# Altium schematic symbol library CapacitorsPoll.SchLib: 96 symbols (part 1 of 2)
Pins are listed as number, name and electrical type; pins without a type are passive.

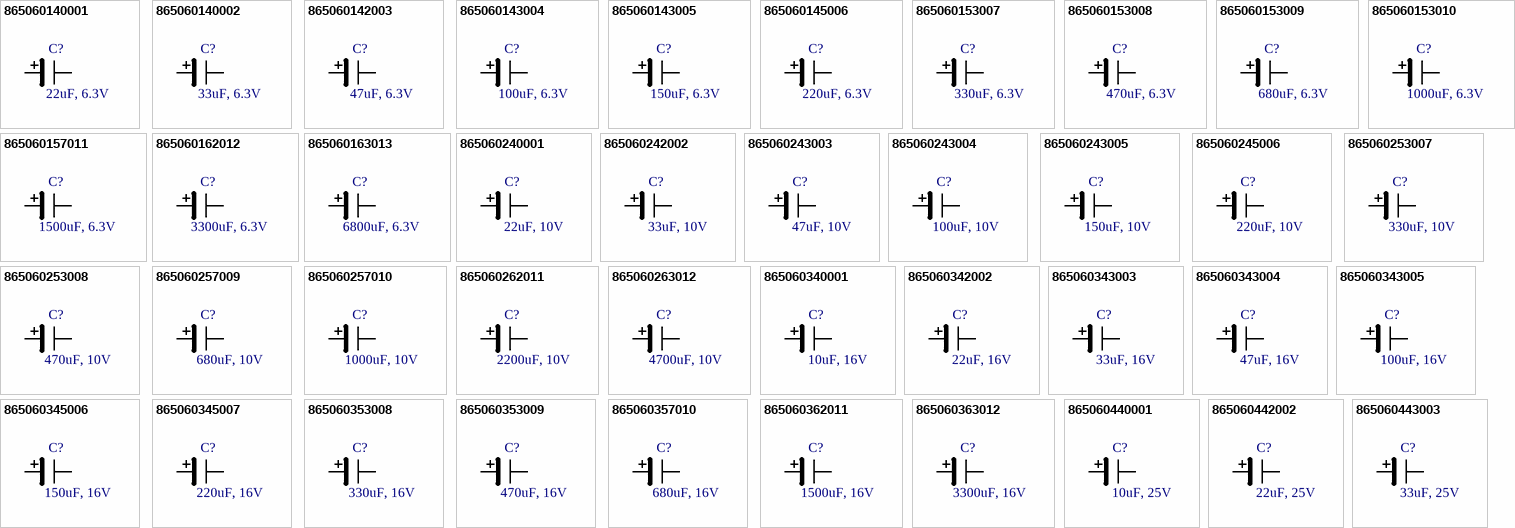
[diagram p0: symbols 865060140001 to 865060443003]

## 865060140001
designator C?, comment 22uF, 6.3V
WCAP-ASLL Aluminum Electrolytic Capacitor, V-Chip, SMT, D4xH5.5mm, 22uF, 6.3V; Manufacturer Part Number: 865060140001; Manufacturer: Wurth Elektronik; Technical Reference: ASEB055220M6R3DVCTAB000; Ripple Current: 80mA; Capacitance Tolerance: +/-20%; Rated Voltage: 6.3VDC; Dissipation Factor: 22%; Endurance: 2000h; Leakage Current: 3uA; Operating Temperature: -55 to +105degC; Mounting Technology: SMT; ComponentLink1URL: http://www.we-online.de; ComponentLink1Description: Manufacturer; Packaging: Tape and Reel; Published Date: October 2020; ComponentLink2Description: Datasheet; ComponentLink2URL: https://www.we-online.com/catalog/datasheet/865060140001.pdf; Diameter: 4mm; Capacitance: 22uF; Height: 5.5mm
footprint WCAP-ASLL_D4H5.5 (Aluminium Electrolytic V-Chip SMT Capacitors, 4x5.5mm)
pins: 1 P, 2 N

## 865060140002
designator C?, comment 33uF, 6.3V
WCAP-ASLL Aluminum Electrolytic Capacitor, V-Chip, SMT, D4xH5.5mm, 33uF, 6.3V; Manufacturer Part Number: 865060140002; Manufacturer: Wurth Elektronik; Technical Reference: ASEB055330M6R3DVCTAB000; Ripple Current: 85mA; Capacitance Tolerance: +/-20%; Rated Voltage: 6.3VDC; Dissipation Factor: 22%; Endurance: 2000h; Leakage Current: 3uA; Operating Temperature: -55 to +105degC; Mounting Technology: SMT; ComponentLink1URL: http://www.we-online.de; ComponentLink1Description: Manufacturer; Packaging: Tape and Reel; Published Date: October 2020; ComponentLink2Description: Datasheet; ComponentLink2URL: https://www.we-online.com/catalog/datasheet/865060140002.pdf; Diameter: 4mm; Capacitance: 33uF; Height: 5.5mm
footprint WCAP-ASLL_D4H5.5 (Aluminium Electrolytic V-Chip SMT Capacitors, 4x5.5mm)
pins: 1 P, 2 N

## 865060142003
designator C?, comment 47uF, 6.3V
WCAP-ASLL Aluminum Electrolytic Capacitor, V-Chip, SMT, D5xH5.5mm, 47uF, 6.3V; Manufacturer Part Number: 865060142003; Manufacturer: Wurth Elektronik; Technical Reference: ASEC055470M6R3DVCTBB000; Ripple Current: 160mA; Capacitance Tolerance: +/-20%; Rated Voltage: 6.3VDC; Dissipation Factor: 22%; Endurance: 2000h; Leakage Current: 3uA; Operating Temperature: -55 to +105degC; Mounting Technology: SMT; ComponentLink1URL: http://www.we-online.de; ComponentLink1Description: Manufacturer; Packaging: Tape and Reel; Published Date: October 2020; ComponentLink2Description: Datasheet; ComponentLink2URL: https://www.we-online.com/catalog/datasheet/865060142003.pdf; Diameter: 5mm; Capacitance: 47uF; Height: 5.5mm
footprint WCAP-ASLL_D5H5.5 (Aluminium Electrolytic V-Chip SMT Capacitors, 5x5.5mm)
pins: 1 P, 2 N

## 865060143004
designator C?, comment 100uF, 6.3V
WCAP-ASLL Aluminum Electrolytic Capacitor, V-Chip, SMT, D6.3xH5.5mm, 100uF, 6.3V; Manufacturer Part Number: 865060143004; Manufacturer: Wurth Elektronik; Technical Reference: ASED055101M6R3DVCTBB000; Ripple Current: 240mA; Capacitance Tolerance: +/-20%; Rated Voltage: 6.3VDC; Dissipation Factor: 22%; Endurance: 2000h; Leakage Current: 6.3uA; Operating Temperature: -55 to +105degC; Mounting Technology: SMT; ComponentLink1URL: http://www.we-online.de; ComponentLink1Description: Manufacturer; Packaging: Tape and Reel; Published Date: October 2020; ComponentLink2Description: Datasheet; ComponentLink2URL: https://www.we-online.com/catalog/datasheet/865060143004.pdf; Diameter: 6.3mm; Capacitance: 100uF; Height: 5.5mm
footprint WCAP-ASLL_D6.3H5.5 (Aluminium Electrolytic V-Chip SMT Capacitors, 6.3x5.5mm)
pins: 1 P, 2 N

## 865060143005
designator C?, comment 150uF, 6.3V
WCAP-ASLL Aluminum Electrolytic Capacitor, V-Chip, SMT, D6.3xH5.5mm, 150uF, 6.3V; Manufacturer Part Number: 865060143005; Manufacturer: Wurth Elektronik; Technical Reference: ASED055151M6R3DVCTBB000; Ripple Current: 240mA; Capacitance Tolerance: +/-20%; Rated Voltage: 6.3VDC; Dissipation Factor: 22%; Endurance: 2000h; Leakage Current: 9.45uA; Operating Temperature: -55 to +105degC; Mounting Technology: SMT; ComponentLink1URL: http://www.we-online.de; ComponentLink1Description: Manufacturer; Packaging: Tape and Reel; Published Date: October 2020; ComponentLink2Description: Datasheet; ComponentLink2URL: https://www.we-online.com/catalog/datasheet/865060143005.pdf; Diameter: 6.3mm; Capacitance: 150uF; Height: 5.5mm
footprint WCAP-ASLL_D6.3H5.5 (Aluminium Electrolytic V-Chip SMT Capacitors, 6.3x5.5mm)
pins: 1 P, 2 N

## 865060145006
designator C?, comment 220uF, 6.3V
WCAP-ASLL Aluminum Electrolytic Capacitor, V-Chip, SMT, D6.3xH7.7mm, 220uF, 6.3V; Manufacturer Part Number: 865060145006; Manufacturer: Wurth Elektronik; Technical Reference: ASED077221M6R3DVCTCB000; Ripple Current: 280mA; Capacitance Tolerance: +/-20%; Rated Voltage: 6.3VDC; Dissipation Factor: 22%; Endurance: 2000h; Leakage Current: 13.86uA; Operating Temperature: -55 to +105degC; Mounting Technology: SMT; ComponentLink1URL: http://www.we-online.de; ComponentLink1Description: Manufacturer; Packaging: Tape and Reel; Published Date: October 2020; ComponentLink2Description: Datasheet; ComponentLink2URL: https://www.we-online.com/catalog/datasheet/865060145006.pdf; Diameter: 6.3mm; Capacitance: 220uF; Height: 7.7mm
footprint WCAP-ASLL_D6.3H7.7 (Aluminium Electrolytic V-Chip SMT Capacitors, 6.3x7.7mm)
pins: 1 P, 2 N

## 865060153007
designator C?, comment 330uF, 6.3V
WCAP-ASLL Aluminum Electrolytic Capacitor, V-Chip, SMT, D8xH10.5mm, 330uF, 6.3V; Manufacturer Part Number: 865060153007; Manufacturer: Wurth Elektronik; Technical Reference: ASEE105331M6R3DVCTEE000; Ripple Current: 450mA; Capacitance Tolerance: +/-20%; Rated Voltage: 6.3VDC; Dissipation Factor: 22%; Endurance: 5000h; Leakage Current: 20.79uA; Operating Temperature: -55 to +105degC; Mounting Technology: SMT; ComponentLink1URL: http://www.we-online.de; ComponentLink1Description: Manufacturer; Packaging: Tape and Reel; Published Date: October 2020; ComponentLink2Description: Datasheet; ComponentLink2URL: https://www.we-online.com/catalog/datasheet/865060153007.pdf; Diameter: 8mm; Capacitance: 330uF; Height: 10.5mm
footprint WCAP-ASLL_D8H10.5 (Aluminium Electrolytic V-Chip SMT Capacitors, 8x10.5mm)
pins: 1 P, 2 N

## 865060153008
designator C?, comment 470uF, 6.3V
WCAP-ASLL Aluminum Electrolytic Capacitor, V-Chip, SMT, D8xH10.5mm, 470uF, 6.3V; Manufacturer Part Number: 865060153008; Manufacturer: Wurth Elektronik; Technical Reference: ASEE105471M6R3DVCTEE000; Ripple Current: 500mA; Capacitance Tolerance: +/-20%; Rated Voltage: 6.3VDC; Dissipation Factor: 22%; Endurance: 5000h; Leakage Current: 29.61uA; Operating Temperature: -55 to +105degC; Mounting Technology: SMT; ComponentLink1URL: http://www.we-online.de; ComponentLink1Description: Manufacturer; Packaging: Tape and Reel; Published Date: October 2020; ComponentLink2Description: Datasheet; ComponentLink2URL: https://www.we-online.com/catalog/datasheet/865060153008.pdf; Diameter: 8mm; Capacitance: 470uF; Height: 10.5mm
footprint WCAP-ASLL_D8H10.5 (Aluminium Electrolytic V-Chip SMT Capacitors, 8x10.5mm)
pins: 1 P, 2 N

## 865060153009
designator C?, comment 680uF, 6.3V
WCAP-ASLL Aluminum Electrolytic Capacitor, V-Chip, SMT, D8xH10.5mm, 680uF, 6.3V; Manufacturer Part Number: 865060153009; Manufacturer: Wurth Elektronik; Technical Reference: ASEE105681M6R3DVCTEE000; Ripple Current: 550mA; Capacitance Tolerance: +/-20%; Rated Voltage: 6.3VDC; Dissipation Factor: 22%; Endurance: 5000h; Leakage Current: 42.84uA; Operating Temperature: -55 to +105degC; Mounting Technology: SMT; ComponentLink1URL: http://www.we-online.de; ComponentLink1Description: Manufacturer; Packaging: Tape and Reel; Published Date: October 2020; ComponentLink2Description: Datasheet; ComponentLink2URL: https://www.we-online.com/catalog/datasheet/865060153009.pdf; Diameter: 8mm; Capacitance: 680uF; Height: 10.5mm
footprint WCAP-ASLL_D8H10.5 (Aluminium Electrolytic V-Chip SMT Capacitors, 8x10.5mm)
pins: 1 P, 2 N

## 865060153010
designator C?, comment 1000uF, 6.3V
WCAP-ASLL Aluminum Electrolytic Capacitor, V-Chip, SMT, D8xH10.5mm, 1000uF, 6.3V; Manufacturer Part Number: 865060153010; Manufacturer: Wurth Elektronik; Technical Reference: ASEE105102M6R3DVCTEE000; Ripple Current: 550mA; Capacitance Tolerance: +/-20%; Rated Voltage: 6.3VDC; Dissipation Factor: 22%; Endurance: 5000h; Leakage Current: 63uA; Operating Temperature: -55 to +105degC; Mounting Technology: SMT; ComponentLink1URL: http://www.we-online.de; ComponentLink1Description: Manufacturer; Packaging: Tape and Reel; Published Date: October 2020; ComponentLink2Description: Datasheet; ComponentLink2URL: https://www.we-online.com/catalog/datasheet/865060153010.pdf; Diameter: 8mm; Capacitance: 1000uF; Height: 10.5mm
footprint WCAP-ASLL_D8H10.5 (Aluminium Electrolytic V-Chip SMT Capacitors, 8x10.5mm)
pins: 1 P, 2 N

## 865060157011
designator C?, comment 1500uF, 6.3V
WCAP-ASLL Aluminum Electrolytic Capacitor, V-Chip, SMT, D10xH10.5mm, 1500uF, 6.3V; Manufacturer Part Number: 865060157011; Manufacturer: Wurth Elektronik; Technical Reference: ASEF105152M6R3DVCTEE000; Ripple Current: 690mA; Capacitance Tolerance: +/-20%; Rated Voltage: 6.3VDC; Dissipation Factor: 22%; Endurance: 5000h; Leakage Current: 94.5uA; Operating Temperature: -55 to +105degC; Mounting Technology: SMT; ComponentLink1URL: http://www.we-online.de; ComponentLink1Description: Manufacturer; Packaging: Tape and Reel; Published Date: October 2020; ComponentLink2Description: Datasheet; ComponentLink2URL: https://www.we-online.com/catalog/datasheet/865060157011.pdf; Diameter: 10mm; Capacitance: 1500uF; Height: 10.5mm
footprint WCAP-ASLL_D10H10.5 (Aluminium Electrolytic V-Chip SMT Capacitors, 10x10.5mm)
pins: 1 P, 2 N

## 865060162012
designator C?, comment 3300uF, 6.3V
WCAP-ASLL Aluminum Electrolytic Capacitor, V-Chip, SMT, D12.5xH14mm, 3300uF, 6.3V; Manufacturer Part Number: 865060162012; Manufacturer: Wurth Elektronik; Technical Reference: ASEH140332M6R3DVCTGE000; Ripple Current: 1150mA; Capacitance Tolerance: +/-20%; Rated Voltage: 6.3VDC; Dissipation Factor: 22%; Endurance: 5000h; Leakage Current: 207.9uA; Operating Temperature: -55 to +105degC; Mounting Technology: SMT; ComponentLink1URL: http://www.we-online.de; ComponentLink1Description: Manufacturer; Packaging: Tape and Reel; Published Date: October 2020; ComponentLink2Description: Datasheet; ComponentLink2URL: https://www.we-online.com/catalog/datasheet/865060162012.pdf; Diameter: 12.5mm; Capacitance: 3300uF; Height: 14mm
footprint WCAP-ASLL_D12.5H14 (Aluminium Electrolytic V-Chip SMT Capacitors, 12.5x14mm)
pins: 1 P, 2 N

## 865060163013
designator C?, comment 6800uF, 6.3V
WCAP-ASLL Aluminum Electrolytic Capacitor, V-Chip, SMT, D16xH17mm, 6800uF, 6.3V; Manufacturer Part Number: 865060163013; Manufacturer: Wurth Elektronik; Technical Reference: ASEK170682M6R3DVCTHE000; Ripple Current: 1800mA; Capacitance Tolerance: +/-20%; Rated Voltage: 6.3VDC; Dissipation Factor: 22%; Endurance: 5000h; Leakage Current: 428.4uA; Operating Temperature: -55 to +105degC; Mounting Technology: SMT; ComponentLink1URL: http://www.we-online.de; ComponentLink1Description: Manufacturer; Packaging: Tape and Reel; Published Date: October 2020; ComponentLink2Description: Datasheet; ComponentLink2URL: https://www.we-online.com/catalog/datasheet/865060163013.pdf; Diameter: 16mm; Capacitance: 6800uF; Height: 17mm
footprint WCAP-ASLL_D16H17 (Aluminium Electrolytic V-Chip SMT Capacitors, 16x17mm)
pins: 1 P, 2 N

## 865060240001
designator C?, comment 22uF, 10V
WCAP-ASLL Aluminum Electrolytic Capacitor, V-Chip, SMT, D4xH5.5mm, 22uF, 10V; Manufacturer Part Number: 865060240001; Manufacturer: Wurth Elektronik; Technical Reference: ASEB055220M010DVCTAB000; Ripple Current: 90mA; Capacitance Tolerance: +/-20%; Rated Voltage: 10VDC; Dissipation Factor: 19%; Endurance: 2000h; Leakage Current: 3uA; Operating Temperature: -55 to +105degC; Mounting Technology: SMT; ComponentLink1URL: http://www.we-online.de; ComponentLink1Description: Manufacturer; Packaging: Tape and Reel; Published Date: October 2020; ComponentLink2Description: Datasheet; ComponentLink2URL: https://www.we-online.com/catalog/datasheet/865060240001.pdf; Diameter: 4mm; Capacitance: 22uF; Height: 5.5mm
footprint WCAP-ASLL_D4H5.5 (Aluminium Electrolytic V-Chip SMT Capacitors, 4x5.5mm)
pins: 1 P, 2 N

## 865060242002
designator C?, comment 33uF, 10V
WCAP-ASLL Aluminum Electrolytic Capacitor, V-Chip, SMT, D5xH5.5mm, 33uF, 10V; Manufacturer Part Number: 865060242002; Manufacturer: Wurth Elektronik; Technical Reference: ASEC055330M010DVCTBB000; Ripple Current: 160mA; Capacitance Tolerance: +/-20%; Rated Voltage: 10VDC; Dissipation Factor: 19%; Endurance: 2000h; Leakage Current: 3.3uA; Operating Temperature: -55 to +105degC; Mounting Technology: SMT; ComponentLink1URL: http://www.we-online.de; ComponentLink1Description: Manufacturer; Packaging: Tape and Reel; Published Date: October 2020; ComponentLink2Description: Datasheet; ComponentLink2URL: https://www.we-online.com/catalog/datasheet/865060242002.pdf; Diameter: 5mm; Capacitance: 33uF; Height: 5.5mm
footprint WCAP-ASLL_D5H5.5 (Aluminium Electrolytic V-Chip SMT Capacitors, 5x5.5mm)
pins: 1 P, 2 N

## 865060243003
designator C?, comment 47uF, 10V
WCAP-ASLL Aluminum Electrolytic Capacitor, V-Chip, SMT, D6.3xH5.5mm, 47uF, 10V; Manufacturer Part Number: 865060243003; Manufacturer: Wurth Elektronik; Technical Reference: ASED055470M010DVCTBB000; Ripple Current: 230mA; Capacitance Tolerance: +/-20%; Rated Voltage: 10VDC; Dissipation Factor: 19%; Endurance: 2000h; Leakage Current: 4.7uA; Operating Temperature: -55 to +105degC; Mounting Technology: SMT; ComponentLink1URL: http://www.we-online.de; ComponentLink1Description: Manufacturer; Packaging: Tape and Reel; Published Date: October 2020; ComponentLink2Description: Datasheet; ComponentLink2URL: https://www.we-online.com/catalog/datasheet/865060243003.pdf; Diameter: 6.3mm; Capacitance: 47uF; Height: 5.5mm
footprint WCAP-ASLL_D6.3H5.5 (Aluminium Electrolytic V-Chip SMT Capacitors, 6.3x5.5mm)
pins: 1 P, 2 N

## 865060243004
designator C?, comment 100uF, 10V
WCAP-ASLL Aluminum Electrolytic Capacitor, V-Chip, SMT, D6.3xH5.5mm, 100uF, 10V; Manufacturer Part Number: 865060243004; Manufacturer: Wurth Elektronik; Technical Reference: ASED055101M010DVCTBB000; Ripple Current: 240mA; Capacitance Tolerance: +/-20%; Rated Voltage: 10VDC; Dissipation Factor: 19%; Endurance: 2000h; Leakage Current: 10uA; Operating Temperature: -55 to +105degC; Mounting Technology: SMT; ComponentLink1URL: http://www.we-online.de; ComponentLink1Description: Manufacturer; Packaging: Tape and Reel; Published Date: October 2020; ComponentLink2Description: Datasheet; ComponentLink2URL: https://www.we-online.com/catalog/datasheet/865060243004.pdf; Diameter: 6.3mm; Capacitance: 100uF; Height: 5.5mm
footprint WCAP-ASLL_D6.3H5.5 (Aluminium Electrolytic V-Chip SMT Capacitors, 6.3x5.5mm)
pins: 1 P, 2 N

## 865060243005
designator C?, comment 150uF, 10V
WCAP-ASLL Aluminum Electrolytic Capacitor, V-Chip, SMT, D6.3xH5.5mm, 150uF, 10V; Manufacturer Part Number: 865060243005; Manufacturer: Wurth Elektronik; Technical Reference: ASED055151M010DVCTBB000; Ripple Current: 250mA; Capacitance Tolerance: +/-20%; Rated Voltage: 10VDC; Dissipation Factor: 19%; Endurance: 2000h; Leakage Current: 15uA; Operating Temperature: -55 to +105degC; Mounting Technology: SMT; ComponentLink1URL: http://www.we-online.de; ComponentLink1Description: Manufacturer; Packaging: Tape and Reel; Published Date: October 2020; ComponentLink2Description: Datasheet; ComponentLink2URL: https://www.we-online.com/catalog/datasheet/865060243005.pdf; Diameter: 6.3mm; Capacitance: 150uF; Height: 5.5mm
footprint WCAP-ASLL_D6.3H5.5 (Aluminium Electrolytic V-Chip SMT Capacitors, 6.3x5.5mm)
pins: 1 P, 2 N

## 865060245006
designator C?, comment 220uF, 10V
WCAP-ASLL Aluminum Electrolytic Capacitor, V-Chip, SMT, D6.3xH7.7mm, 220uF, 10V; Manufacturer Part Number: 865060245006; Manufacturer: Wurth Elektronik; Technical Reference: ASED077221M010DVCTCB000; Ripple Current: 300mA; Capacitance Tolerance: +/-20%; Rated Voltage: 10VDC; Dissipation Factor: 19%; Endurance: 2000h; Leakage Current: 22uA; Operating Temperature: -55 to +105degC; Mounting Technology: SMT; ComponentLink1URL: http://www.we-online.de; ComponentLink1Description: Manufacturer; Packaging: Tape and Reel; Published Date: October 2020; ComponentLink2Description: Datasheet; ComponentLink2URL: https://www.we-online.com/catalog/datasheet/865060245006.pdf; Diameter: 6.3mm; Capacitance: 220uF; Height: 7.7mm
footprint WCAP-ASLL_D6.3H7.7 (Aluminium Electrolytic V-Chip SMT Capacitors, 6.3x7.7mm)
pins: 1 P, 2 N

## 865060253007
designator C?, comment 330uF, 10V
WCAP-ASLL Aluminum Electrolytic Capacitor, V-Chip, SMT, D8xH10.5mm, 330uF, 10V; Manufacturer Part Number: 865060253007; Manufacturer: Wurth Elektronik; Technical Reference: ASEE105331M010DVCTEE000; Ripple Current: 500mA; Capacitance Tolerance: +/-20%; Rated Voltage: 10VDC; Dissipation Factor: 19%; Endurance: 5000h; Leakage Current: 33uA; Operating Temperature: -55 to +105degC; Mounting Technology: SMT; ComponentLink1URL: http://www.we-online.de; ComponentLink1Description: Manufacturer; Packaging: Tape and Reel; Published Date: October 2020; ComponentLink2Description: Datasheet; ComponentLink2URL: https://www.we-online.com/catalog/datasheet/865060253007.pdf; Diameter: 8mm; Capacitance: 330uF; Height: 10.5mm
footprint WCAP-ASLL_D8H10.5 (Aluminium Electrolytic V-Chip SMT Capacitors, 8x10.5mm)
pins: 1 P, 2 N

## 865060253008
designator C?, comment 470uF, 10V
WCAP-ASLL Aluminum Electrolytic Capacitor, V-Chip, SMT, D8xH10.5mm, 470uF, 10V; Manufacturer Part Number: 865060253008; Manufacturer: Wurth Elektronik; Technical Reference: ASEE105471M010DVCTEE000; Ripple Current: 550mA; Capacitance Tolerance: +/-20%; Rated Voltage: 10VDC; Dissipation Factor: 19%; Endurance: 5000h; Leakage Current: 47uA; Operating Temperature: -55 to +105degC; Mounting Technology: SMT; ComponentLink1URL: http://www.we-online.de; ComponentLink1Description: Manufacturer; Packaging: Tape and Reel; Published Date: October 2020; ComponentLink2Description: Datasheet; ComponentLink2URL: https://www.we-online.com/catalog/datasheet/865060253008.pdf; Diameter: 8mm; Capacitance: 470uF; Height: 10.5mm
footprint WCAP-ASLL_D8H10.5 (Aluminium Electrolytic V-Chip SMT Capacitors, 8x10.5mm)
pins: 1 P, 2 N

## 865060257009
designator C?, comment 680uF, 10V
WCAP-ASLL Aluminum Electrolytic Capacitor, V-Chip, SMT, D10xH10.5mm, 680uF, 10V; Manufacturer Part Number: 865060257009; Manufacturer: Wurth Elektronik; Technical Reference: ASEF105681M010DVCTEE000; Ripple Current: 690mA; Capacitance Tolerance: +/-20%; Rated Voltage: 10VDC; Dissipation Factor: 19%; Endurance: 5000h; Leakage Current: 68uA; Operating Temperature: -55 to +105degC; Mounting Technology: SMT; ComponentLink1URL: http://www.we-online.de; ComponentLink1Description: Manufacturer; Packaging: Tape and Reel; Published Date: October 2020; ComponentLink2Description: Datasheet; ComponentLink2URL: https://www.we-online.com/catalog/datasheet/865060257009.pdf; Diameter: 10mm; Capacitance: 680uF; Height: 10.5mm
footprint WCAP-ASLL_D10H10.5 (Aluminium Electrolytic V-Chip SMT Capacitors, 10x10.5mm)
pins: 1 P, 2 N

## 865060257010
designator C?, comment 1000uF, 10V
WCAP-ASLL Aluminum Electrolytic Capacitor, V-Chip, SMT, D10xH10.5mm, 1000uF, 10V; Manufacturer Part Number: 865060257010; Manufacturer: Wurth Elektronik; Technical Reference: ASEF105102M010DVCTEE000; Ripple Current: 690mA; Capacitance Tolerance: +/-20%; Rated Voltage: 10VDC; Dissipation Factor: 19%; Endurance: 5000h; Leakage Current: 100uA; Operating Temperature: -55 to +105degC; Mounting Technology: SMT; ComponentLink1URL: http://www.we-online.de; ComponentLink1Description: Manufacturer; Packaging: Tape and Reel; Published Date: October 2020; ComponentLink2Description: Datasheet; ComponentLink2URL: https://www.we-online.com/catalog/datasheet/865060257010.pdf; Diameter: 10mm; Capacitance: 1000uF; Height: 10.5mm
footprint WCAP-ASLL_D10H10.5 (Aluminium Electrolytic V-Chip SMT Capacitors, 10x10.5mm)
pins: 1 P, 2 N

## 865060262011
designator C?, comment 2200uF, 10V
WCAP-ASLL Aluminum Electrolytic Capacitor, V-Chip, SMT, D12.5xH14mm, 2200uF, 10V; Manufacturer Part Number: 865060262011; Manufacturer: Wurth Elektronik; Technical Reference: ASEH140222M010DVCTGE000; Ripple Current: 1150mA; Capacitance Tolerance: +/-20%; Rated Voltage: 10VDC; Dissipation Factor: 19%; Endurance: 5000h; Leakage Current: 220uA; Operating Temperature: -55 to +105degC; Mounting Technology: SMT; ComponentLink1URL: http://www.we-online.de; ComponentLink1Description: Manufacturer; Packaging: Tape and Reel; Published Date: October 2020; ComponentLink2Description: Datasheet; ComponentLink2URL: https://www.we-online.com/catalog/datasheet/865060262011.pdf; Diameter: 12.5mm; Capacitance: 2200uF; Height: 14mm
footprint WCAP-ASLL_D12.5H14 (Aluminium Electrolytic V-Chip SMT Capacitors, 12.5x14mm)
pins: 1 P, 2 N

## 865060263012
designator C?, comment 4700uF, 10V
WCAP-ASLL Aluminum Electrolytic Capacitor, V-Chip, SMT, D16xH17mm, 4700uF, 10V; Manufacturer Part Number: 865060263012; Manufacturer: Wurth Elektronik; Technical Reference: ASEK170472M010DVCTHE000; Ripple Current: 1800mA; Capacitance Tolerance: +/-20%; Rated Voltage: 10VDC; Dissipation Factor: 19%; Endurance: 5000h; Leakage Current: 470uA; Operating Temperature: -55 to +105degC; Mounting Technology: SMT; ComponentLink1URL: http://www.we-online.de; ComponentLink1Description: Manufacturer; Packaging: Tape and Reel; Published Date: October 2020; ComponentLink2Description: Datasheet; ComponentLink2URL: https://www.we-online.com/catalog/datasheet/865060263012.pdf; Diameter: 16mm; Capacitance: 4700uF; Height: 17mm
footprint WCAP-ASLL_D16H17 (Aluminium Electrolytic V-Chip SMT Capacitors, 16x17mm)
pins: 1 P, 2 N

## 865060340001
designator C?, comment 10uF, 16V
WCAP-ASLL Aluminum Electrolytic Capacitor, V-Chip, SMT, D4xH5.5mm, 10uF, 16V; Manufacturer Part Number: 865060340001; Manufacturer: Wurth Elektronik; Technical Reference: ASEB055100M016DVCTAB000; Ripple Current: 90mA; Capacitance Tolerance: +/-20%; Rated Voltage: 16VDC; Dissipation Factor: 16%; Endurance: 2000h; Leakage Current: 3uA; Operating Temperature: -55 to +105degC; Mounting Technology: SMT; ComponentLink1URL: http://www.we-online.de; ComponentLink1Description: Manufacturer; Packaging: Tape and Reel; Published Date: October 2020; ComponentLink2Description: Datasheet; ComponentLink2URL: https://www.we-online.com/catalog/datasheet/865060340001.pdf; Diameter: 4mm; Capacitance: 10uF; Height: 5.5mm
footprint WCAP-ASLL_D4H5.5 (Aluminium Electrolytic V-Chip SMT Capacitors, 4x5.5mm)
pins: 1 P, 2 N

## 865060342002
designator C?, comment 22uF, 16V
WCAP-ASLL Aluminum Electrolytic Capacitor, V-Chip, SMT, D5xH5.5mm, 22uF, 16V; Manufacturer Part Number: 865060342002; Manufacturer: Wurth Elektronik; Technical Reference: ASEC055220M016DVCTBB000; Ripple Current: 150mA; Capacitance Tolerance: +/-20%; Rated Voltage: 16VDC; Dissipation Factor: 16%; Endurance: 2000h; Leakage Current: 3.52uA; Operating Temperature: -55 to +105degC; Mounting Technology: SMT; ComponentLink1URL: http://www.we-online.de; ComponentLink1Description: Manufacturer; Packaging: Tape and Reel; Published Date: October 2020; ComponentLink2Description: Datasheet; ComponentLink2URL: https://www.we-online.com/catalog/datasheet/865060342002.pdf; Diameter: 5mm; Capacitance: 22uF; Height: 5.5mm
footprint WCAP-ASLL_D5H5.5 (Aluminium Electrolytic V-Chip SMT Capacitors, 5x5.5mm)
pins: 1 P, 2 N

## 865060343003
designator C?, comment 33uF, 16V
WCAP-ASLL Aluminum Electrolytic Capacitor, V-Chip, SMT, D6.3xH5.5mm, 33uF, 16V; Manufacturer Part Number: 865060343003; Manufacturer: Wurth Elektronik; Technical Reference: ASED055330M016DVCTBB000; Ripple Current: 230mA; Capacitance Tolerance: +/-20%; Rated Voltage: 16VDC; Dissipation Factor: 16%; Endurance: 2000h; Leakage Current: 5.28uA; Operating Temperature: -55 to +105degC; Mounting Technology: SMT; ComponentLink1URL: http://www.we-online.de; ComponentLink1Description: Manufacturer; Packaging: Tape and Reel; Published Date: October 2020; ComponentLink2Description: Datasheet; ComponentLink2URL: https://www.we-online.com/catalog/datasheet/865060343003.pdf; Diameter: 6.3mm; Capacitance: 33uF; Height: 5.5mm
footprint WCAP-ASLL_D6.3H5.5 (Aluminium Electrolytic V-Chip SMT Capacitors, 6.3x5.5mm)
pins: 1 P, 2 N

## 865060343004
designator C?, comment 47uF, 16V
WCAP-ASLL Aluminum Electrolytic Capacitor, V-Chip, SMT, D6.3xH5.5mm, 47uF, 16V; Manufacturer Part Number: 865060343004; Manufacturer: Wurth Elektronik; Technical Reference: ASED055470M016DVCTBB000; Ripple Current: 230mA; Capacitance Tolerance: +/-20%; Rated Voltage: 16VDC; Dissipation Factor: 16%; Endurance: 2000h; Leakage Current: 7.52uA; Operating Temperature: -55 to +105degC; Mounting Technology: SMT; ComponentLink1URL: http://www.we-online.de; ComponentLink1Description: Manufacturer; Packaging: Tape and Reel; Published Date: October 2020; ComponentLink2Description: Datasheet; ComponentLink2URL: https://www.we-online.com/catalog/datasheet/865060343004.pdf; Diameter: 6.3mm; Capacitance: 47uF; Height: 5.5mm
footprint WCAP-ASLL_D6.3H5.5 (Aluminium Electrolytic V-Chip SMT Capacitors, 6.3x5.5mm)
pins: 1 P, 2 N

## 865060343005
designator C?, comment 100uF, 16V
WCAP-ASLL Aluminum Electrolytic Capacitor, V-Chip, SMT, D6.3xH5.5mm, 100uF, 16V; Manufacturer Part Number: 865060343005; Manufacturer: Wurth Elektronik; Technical Reference: ASED055101M016DVCTBB000; Ripple Current: 255mA; Capacitance Tolerance: +/-20%; Rated Voltage: 16VDC; Dissipation Factor: 16%; Endurance: 2000h; Leakage Current: 16uA; Operating Temperature: -55 to +105degC; Mounting Technology: SMT; ComponentLink1URL: http://www.we-online.de; ComponentLink1Description: Manufacturer; Packaging: Tape and Reel; Published Date: October 2020; ComponentLink2Description: Datasheet; ComponentLink2URL: https://www.we-online.com/catalog/datasheet/865060343005.pdf; Diameter: 6.3mm; Capacitance: 100uF; Height: 5.5mm
footprint WCAP-ASLL_D6.3H5.5 (Aluminium Electrolytic V-Chip SMT Capacitors, 6.3x5.5mm)
pins: 1 P, 2 N

## 865060345006
designator C?, comment 150uF, 16V
WCAP-ASLL Aluminum Electrolytic Capacitor, V-Chip, SMT, D6.3xH7.7mm, 150uF, 16V; Manufacturer Part Number: 865060345006; Manufacturer: Wurth Elektronik; Technical Reference: ASED077151M016DVCTCB000; Ripple Current: 280mA; Capacitance Tolerance: +/-20%; Rated Voltage: 16VDC; Dissipation Factor: 16%; Endurance: 2000h; Leakage Current: 24uA; Operating Temperature: -55 to +105degC; Mounting Technology: SMT; ComponentLink1URL: http://www.we-online.de; ComponentLink1Description: Manufacturer; Packaging: Tape and Reel; Published Date: October 2020; ComponentLink2Description: Datasheet; ComponentLink2URL: https://www.we-online.com/catalog/datasheet/865060345006.pdf; Diameter: 6.3mm; Capacitance: 150uF; Height: 7.7mm
footprint WCAP-ASLL_D6.3H7.7 (Aluminium Electrolytic V-Chip SMT Capacitors, 6.3x7.7mm)
pins: 1 P, 2 N

## 865060345007
designator C?, comment 220uF, 16V
WCAP-ASLL Aluminum Electrolytic Capacitor, V-Chip, SMT, D6.3xH7.7mm, 220uF, 16V; Manufacturer Part Number: 865060345007; Manufacturer: Wurth Elektronik; Technical Reference: ASED077221M016DVCTCB000; Ripple Current: 280mA; Capacitance Tolerance: +/-20%; Rated Voltage: 16VDC; Dissipation Factor: 16%; Endurance: 2000h; Leakage Current: 35.2uA; Operating Temperature: -55 to +105degC; Mounting Technology: SMT; ComponentLink1URL: http://www.we-online.de; ComponentLink1Description: Manufacturer; Packaging: Tape and Reel; Published Date: October 2020; ComponentLink2Description: Datasheet; ComponentLink2URL: https://www.we-online.com/catalog/datasheet/865060345007.pdf; Diameter: 6.3mm; Capacitance: 220uF; Height: 7.7mm
footprint WCAP-ASLL_D6.3H7.7 (Aluminium Electrolytic V-Chip SMT Capacitors, 6.3x7.7mm)
pins: 1 P, 2 N

## 865060353008
designator C?, comment 330uF, 16V
WCAP-ASLL Aluminum Electrolytic Capacitor, V-Chip, SMT, D8xH10.5mm, 330uF, 16V; Manufacturer Part Number: 865060353008; Manufacturer: Wurth Elektronik; Technical Reference: ASEE105331M016DVCTEE000; Ripple Current: 550mA; Capacitance Tolerance: +/-20%; Rated Voltage: 16VDC; Dissipation Factor: 16%; Endurance: 5000h; Leakage Current: 52.8uA; Operating Temperature: -55 to +105degC; Mounting Technology: SMT; ComponentLink1URL: http://www.we-online.de; ComponentLink1Description: Manufacturer; Packaging: Tape and Reel; Published Date: October 2020; ComponentLink2Description: Datasheet; ComponentLink2URL: https://www.we-online.com/catalog/datasheet/865060353008.pdf; Diameter: 8mm; Capacitance: 330uF; Height: 10.5mm
footprint WCAP-ASLL_D8H10.5 (Aluminium Electrolytic V-Chip SMT Capacitors, 8x10.5mm)
pins: 1 P, 2 N

## 865060353009
designator C?, comment 470uF, 16V
WCAP-ASLL Aluminum Electrolytic Capacitor, V-Chip, SMT, D8xH10.5mm, 470uF, 16V; Manufacturer Part Number: 865060353009; Manufacturer: Wurth Elektronik; Technical Reference: ASEE105471M016DVCTEE000; Ripple Current: 600mA; Capacitance Tolerance: +/-20%; Rated Voltage: 16VDC; Dissipation Factor: 16%; Endurance: 5000h; Leakage Current: 75.2uA; Operating Temperature: -55 to +105degC; Mounting Technology: SMT; ComponentLink1URL: http://www.we-online.de; ComponentLink1Description: Manufacturer; Packaging: Tape and Reel; Published Date: October 2020; ComponentLink2Description: Datasheet; ComponentLink2URL: https://www.we-online.com/catalog/datasheet/865060353009.pdf; Diameter: 8mm; Capacitance: 470uF; Height: 10.5mm
footprint WCAP-ASLL_D8H10.5 (Aluminium Electrolytic V-Chip SMT Capacitors, 8x10.5mm)
pins: 1 P, 2 N

## 865060357010
designator C?, comment 680uF, 16V
WCAP-ASLL Aluminum Electrolytic Capacitor, V-Chip, SMT, D10xH10.5mm, 680uF, 16V; Manufacturer Part Number: 865060357010; Manufacturer: Wurth Elektronik; Technical Reference: ASEF105681M016DVCTEE000; Ripple Current: 750mA; Capacitance Tolerance: +/-20%; Rated Voltage: 16VDC; Dissipation Factor: 16%; Endurance: 5000h; Leakage Current: 108.8uA; Operating Temperature: -55 to +105degC; Mounting Technology: SMT; ComponentLink1URL: http://www.we-online.de; ComponentLink1Description: Manufacturer; Packaging: Tape and Reel; Published Date: October 2020; ComponentLink2Description: Datasheet; ComponentLink2URL: https://www.we-online.com/catalog/datasheet/865060357010.pdf; Diameter: 10mm; Capacitance: 680uF; Height: 10.5mm
footprint WCAP-ASLL_D10H10.5 (Aluminium Electrolytic V-Chip SMT Capacitors, 10x10.5mm)
pins: 1 P, 2 N

## 865060362011
designator C?, comment 1500uF, 16V
WCAP-ASLL Aluminum Electrolytic Capacitor, V-Chip, SMT, D12.5xH14mm, 1500uF, 16V; Manufacturer Part Number: 865060362011; Manufacturer: Wurth Elektronik; Technical Reference: ASEH140152M016DVCTGE000; Ripple Current: 1150mA; Capacitance Tolerance: +/-20%; Rated Voltage: 16VDC; Dissipation Factor: 16%; Endurance: 5000h; Leakage Current: 240uA; Operating Temperature: -55 to +105degC; Mounting Technology: SMT; ComponentLink1URL: http://www.we-online.de; ComponentLink1Description: Manufacturer; Packaging: Tape and Reel; Published Date: October 2020; ComponentLink2Description: Datasheet; ComponentLink2URL: https://www.we-online.com/catalog/datasheet/865060362011.pdf; Diameter: 12.5mm; Capacitance: 1500uF; Height: 14mm
footprint WCAP-ASLL_D12.5H14 (Aluminium Electrolytic V-Chip SMT Capacitors, 12.5x14mm)
pins: 1 P, 2 N

## 865060363012
designator C?, comment 3300uF, 16V
WCAP-ASLL Aluminum Electrolytic Capacitor, V-Chip, SMT, D16xH17mm, 3300uF, 16V; Manufacturer Part Number: 865060363012; Manufacturer: Wurth Elektronik; Technical Reference: ASEK170332M016DVCTHE000; Ripple Current: 1800mA; Capacitance Tolerance: +/-20%; Rated Voltage: 16VDC; Dissipation Factor: 16%; Endurance: 5000h; Leakage Current: 528uA; Operating Temperature: -55 to +105degC; Mounting Technology: SMT; ComponentLink1URL: http://www.we-online.de; ComponentLink1Description: Manufacturer; Packaging: Tape and Reel; Published Date: October 2020; ComponentLink2Description: Datasheet; ComponentLink2URL: https://www.we-online.com/catalog/datasheet/865060363012.pdf; Diameter: 16mm; Capacitance: 3300uF; Height: 17mm
footprint WCAP-ASLL_D16H17 (Aluminium Electrolytic V-Chip SMT Capacitors, 16x17mm)
pins: 1 P, 2 N

## 865060440001
designator C?, comment 10uF, 25V
WCAP-ASLL Aluminum Electrolytic Capacitor, V-Chip, SMT, D4xH5.5mm, 10uF, 25V; Manufacturer Part Number: 865060440001; Manufacturer: Wurth Elektronik; Technical Reference: ASEB055100M025DVCTAB000; Ripple Current: 90mA; Capacitance Tolerance: +/-20%; Rated Voltage: 25VDC; Dissipation Factor: 14%; Endurance: 2000h; Leakage Current: 3uA; Operating Temperature: -55 to +105degC; Mounting Technology: SMT; ComponentLink1URL: http://www.we-online.de; ComponentLink1Description: Manufacturer; Packaging: Tape and Reel; Published Date: October 2020; ComponentLink2Description: Datasheet; ComponentLink2URL: https://www.we-online.com/catalog/datasheet/865060440001.pdf; Diameter: 4mm; Capacitance: 10uF; Height: 5.5mm
footprint WCAP-ASLL_D4H5.5 (Aluminium Electrolytic V-Chip SMT Capacitors, 4x5.5mm)
pins: 1 P, 2 N

## 865060442002
designator C?, comment 22uF, 25V
WCAP-ASLL Aluminum Electrolytic Capacitor, V-Chip, SMT, D5xH5.5mm, 22uF, 25V; Manufacturer Part Number: 865060442002; Manufacturer: Wurth Elektronik; Technical Reference: ASEC055220M025DVCTBB000; Ripple Current: 150mA; Capacitance Tolerance: +/-20%; Rated Voltage: 25VDC; Dissipation Factor: 14%; Endurance: 2000h; Leakage Current: 5.5uA; Operating Temperature: -55 to +105degC; Mounting Technology: SMT; ComponentLink1URL: http://www.we-online.de; ComponentLink1Description: Manufacturer; Packaging: Tape and Reel; Published Date: October 2020; ComponentLink2Description: Datasheet; ComponentLink2URL: https://www.we-online.com/catalog/datasheet/865060442002.pdf; Diameter: 5mm; Capacitance: 22uF; Height: 5.5mm
footprint WCAP-ASLL_D5H5.5 (Aluminium Electrolytic V-Chip SMT Capacitors, 5x5.5mm)
pins: 1 P, 2 N

## 865060443003
designator C?, comment 33uF, 25V
WCAP-ASLL Aluminum Electrolytic Capacitor, V-Chip, SMT, D6.3xH5.5mm, 33uF, 25V; Manufacturer Part Number: 865060443003; Manufacturer: Wurth Elektronik; Technical Reference: ASED055330M025DVCTBB000; Ripple Current: 230mA; Capacitance Tolerance: +/-20%; Rated Voltage: 25VDC; Dissipation Factor: 14%; Endurance: 2000h; Leakage Current: 8.25uA; Operating Temperature: -55 to +105degC; Mounting Technology: SMT; ComponentLink1URL: http://www.we-online.de; ComponentLink1Description: Manufacturer; Packaging: Tape and Reel; Published Date: October 2020; ComponentLink2Description: Datasheet; ComponentLink2URL: https://www.we-online.com/catalog/datasheet/865060443003.pdf; Diameter: 6.3mm; Capacitance: 33uF; Height: 5.5mm
footprint WCAP-ASLL_D6.3H5.5 (Aluminium Electrolytic V-Chip SMT Capacitors, 6.3x5.5mm)
pins: 1 P, 2 N

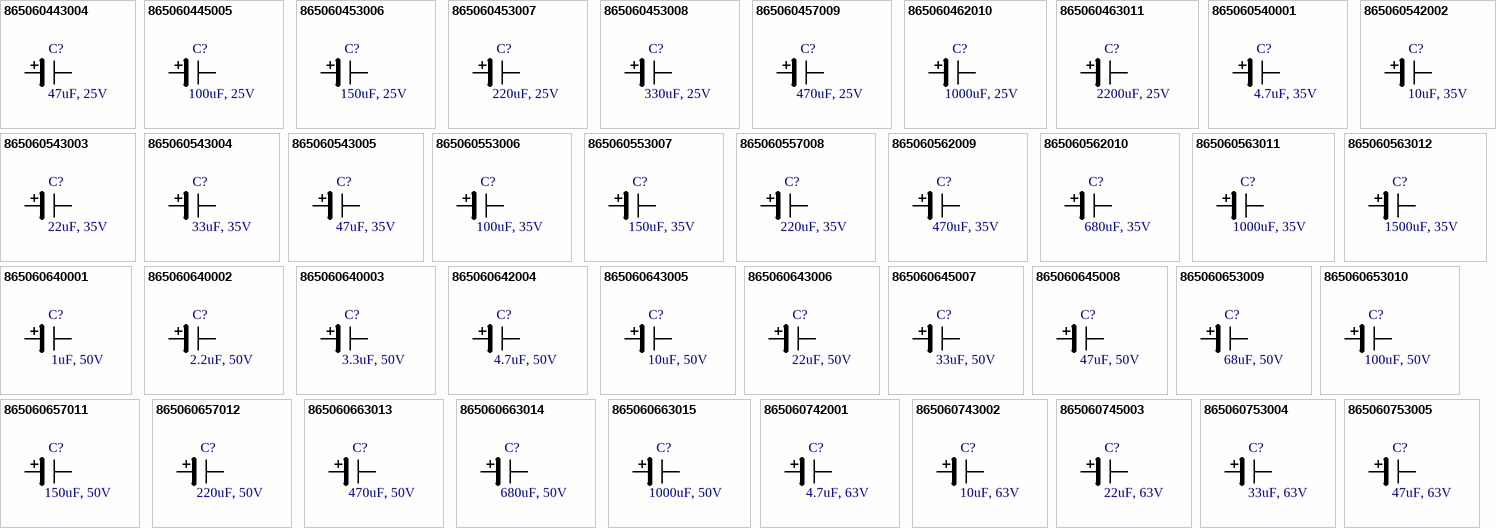
[diagram p1: symbols 865060443004 to 865060753005]

## 865060443004
designator C?, comment 47uF, 25V
WCAP-ASLL Aluminum Electrolytic Capacitor, V-Chip, SMT, D6.3xH5.5mm, 47uF, 25V; Manufacturer Part Number: 865060443004; Manufacturer: Wurth Elektronik; Technical Reference: ASED055470M025DVCTBB000; Ripple Current: 230mA; Capacitance Tolerance: +/-20%; Rated Voltage: 25VDC; Dissipation Factor: 14%; Endurance: 2000h; Leakage Current: 11.75uA; Operating Temperature: -55 to +105degC; Mounting Technology: SMT; ComponentLink1URL: http://www.we-online.de; ComponentLink1Description: Manufacturer; Packaging: Tape and Reel; Published Date: October 2020; ComponentLink2Description: Datasheet; ComponentLink2URL: https://www.we-online.com/catalog/datasheet/865060443004.pdf; Diameter: 6.3mm; Capacitance: 47uF; Height: 5.5mm
footprint WCAP-ASLL_D6.3H5.5 (Aluminium Electrolytic V-Chip SMT Capacitors, 6.3x5.5mm)
pins: 1 P, 2 N

## 865060445005
designator C?, comment 100uF, 25V
WCAP-ASLL Aluminum Electrolytic Capacitor, V-Chip, SMT, D6.3xH7.7mm, 100uF, 25V; Manufacturer Part Number: 865060445005; Manufacturer: Wurth Elektronik; Technical Reference: ASED077101M025DVCTCB000; Ripple Current: 300mA; Capacitance Tolerance: +/-20%; Rated Voltage: 25VDC; Dissipation Factor: 14%; Endurance: 2000h; Leakage Current: 25uA; Operating Temperature: -55 to +105degC; Mounting Technology: SMT; ComponentLink1URL: http://www.we-online.de; ComponentLink1Description: Manufacturer; Packaging: Tape and Reel; Published Date: October 2020; ComponentLink2Description: Datasheet; ComponentLink2URL: https://www.we-online.com/catalog/datasheet/865060445005.pdf; Diameter: 6.3mm; Capacitance: 100uF; Height: 7.7mm
footprint WCAP-ASLL_D6.3H7.7 (Aluminium Electrolytic V-Chip SMT Capacitors, 6.3x7.7mm)
pins: 1 P, 2 N

## 865060453006
designator C?, comment 150uF, 25V
WCAP-ASLL Aluminum Electrolytic Capacitor, V-Chip, SMT, D8xH10.5mm, 150uF, 25V; Manufacturer Part Number: 865060453006; Manufacturer: Wurth Elektronik; Technical Reference: ASEE105151M025DVCTEE000; Ripple Current: 500mA; Capacitance Tolerance: +/-20%; Rated Voltage: 25VDC; Dissipation Factor: 14%; Endurance: 5000h; Leakage Current: 37.5uA; Operating Temperature: -55 to +105degC; Mounting Technology: SMT; ComponentLink1URL: http://www.we-online.de; ComponentLink1Description: Manufacturer; Packaging: Tape and Reel; Published Date: October 2020; ComponentLink2Description: Datasheet; ComponentLink2URL: https://www.we-online.com/catalog/datasheet/865060453006.pdf; Diameter: 8mm; Capacitance: 150uF; Height: 10.5mm
footprint WCAP-ASLL_D8H10.5 (Aluminium Electrolytic V-Chip SMT Capacitors, 8x10.5mm)
pins: 1 P, 2 N

## 865060453007
designator C?, comment 220uF, 25V
WCAP-ASLL Aluminum Electrolytic Capacitor, V-Chip, SMT, D8xH10.5mm, 220uF, 25V; Manufacturer Part Number: 865060453007; Manufacturer: Wurth Elektronik; Technical Reference: ASEE105221M025DVCTEE000; Ripple Current: 550mA; Capacitance Tolerance: +/-20%; Rated Voltage: 25VDC; Dissipation Factor: 14%; Endurance: 5000h; Leakage Current: 55uA; Operating Temperature: -55 to +105degC; Mounting Technology: SMT; ComponentLink1URL: http://www.we-online.de; ComponentLink1Description: Manufacturer; Packaging: Tape and Reel; Published Date: October 2020; ComponentLink2Description: Datasheet; ComponentLink2URL: https://www.we-online.com/catalog/datasheet/865060453007.pdf; Diameter: 8mm; Capacitance: 220uF; Height: 10.5mm
footprint WCAP-ASLL_D8H10.5 (Aluminium Electrolytic V-Chip SMT Capacitors, 8x10.5mm)
pins: 1 P, 2 N

## 865060453008
designator C?, comment 330uF, 25V
WCAP-ASLL Aluminum Electrolytic Capacitor, V-Chip, SMT, D8xH10.5mm, 330uF, 25V; Manufacturer Part Number: 865060453008; Manufacturer: Wurth Elektronik; Technical Reference: ASEE105331M025DVCTEE000; Ripple Current: 600mA; Capacitance Tolerance: +/-20%; Rated Voltage: 25VDC; Dissipation Factor: 14%; Endurance: 5000h; Leakage Current: 82.5uA; Operating Temperature: -55 to +105degC; Mounting Technology: SMT; ComponentLink1URL: http://www.we-online.de; ComponentLink1Description: Manufacturer; Packaging: Tape and Reel; Published Date: October 2020; ComponentLink2Description: Datasheet; ComponentLink2URL: https://www.we-online.com/catalog/datasheet/865060453008.pdf; Diameter: 8mm; Capacitance: 330uF; Height: 10.5mm
footprint WCAP-ASLL_D8H10.5 (Aluminium Electrolytic V-Chip SMT Capacitors, 8x10.5mm)
pins: 1 P, 2 N

## 865060457009
designator C?, comment 470uF, 25V
WCAP-ASLL Aluminum Electrolytic Capacitor, V-Chip, SMT, D10xH10.5mm, 470uF, 25V; Manufacturer Part Number: 865060457009; Manufacturer: Wurth Elektronik; Technical Reference: ASEF105471M025DVCTEE000; Ripple Current: 670mA; Capacitance Tolerance: +/-20%; Rated Voltage: 25VDC; Dissipation Factor: 14%; Endurance: 5000h; Leakage Current: 117.5uA; Operating Temperature: -55 to +105degC; Mounting Technology: SMT; ComponentLink1URL: http://www.we-online.de; ComponentLink1Description: Manufacturer; Packaging: Tape and Reel; Published Date: October 2020; ComponentLink2Description: Datasheet; ComponentLink2URL: https://www.we-online.com/catalog/datasheet/865060457009.pdf; Diameter: 10mm; Capacitance: 470uF; Height: 10.5mm
footprint WCAP-ASLL_D10H10.5 (Aluminium Electrolytic V-Chip SMT Capacitors, 10x10.5mm)
pins: 1 P, 2 N

## 865060462010
designator C?, comment 1000uF, 25V
WCAP-ASLL Aluminum Electrolytic Capacitor, V-Chip, SMT, D12.5xH14mm, 1000uF, 25V; Manufacturer Part Number: 865060462010; Manufacturer: Wurth Elektronik; Technical Reference: ASEH140102M025DVCTGE000; Ripple Current: 1150mA; Capacitance Tolerance: +/-20%; Rated Voltage: 25VDC; Dissipation Factor: 14%; Endurance: 5000h; Leakage Current: 250uA; Operating Temperature: -55 to +105degC; Mounting Technology: SMT; ComponentLink1URL: http://www.we-online.de; ComponentLink1Description: Manufacturer; Packaging: Tape and Reel; Published Date: October 2020; ComponentLink2Description: Datasheet; ComponentLink2URL: https://www.we-online.com/catalog/datasheet/865060462010.pdf; Diameter: 12.5mm; Capacitance: 1000uF; Height: 14mm
footprint WCAP-ASLL_D12.5H14 (Aluminium Electrolytic V-Chip SMT Capacitors, 12.5x14mm)
pins: 1 P, 2 N

## 865060463011
designator C?, comment 2200uF, 25V
WCAP-ASLL Aluminum Electrolytic Capacitor, V-Chip, SMT, D16xH17mm, 2200uF, 25V; Manufacturer Part Number: 865060463011; Manufacturer: Wurth Elektronik; Technical Reference: ASEK170222M025DVCTHE000; Ripple Current: 1800mA; Capacitance Tolerance: +/-20%; Rated Voltage: 25VDC; Dissipation Factor: 14%; Endurance: 5000h; Leakage Current: 550uA; Operating Temperature: -55 to +105degC; Mounting Technology: SMT; ComponentLink1URL: http://www.we-online.de; ComponentLink1Description: Manufacturer; Packaging: Tape and Reel; Published Date: October 2020; ComponentLink2Description: Datasheet; ComponentLink2URL: https://www.we-online.com/catalog/datasheet/865060463011.pdf; Diameter: 16mm; Capacitance: 2200uF; Height: 17mm
footprint WCAP-ASLL_D16H17 (Aluminium Electrolytic V-Chip SMT Capacitors, 16x17mm)
pins: 1 P, 2 N

## 865060540001
designator C?, comment 4.7uF, 35V
WCAP-ASLL Aluminum Electrolytic Capacitor, V-Chip, SMT, D4xH5.5mm, 4.7uF, 35V; Manufacturer Part Number: 865060540001; Manufacturer: Wurth Elektronik; Technical Reference: ASEB0554R7M035DVCTAB000; Ripple Current: 90mA; Capacitance Tolerance: +/-20%; Rated Voltage: 35VDC; Dissipation Factor: 14%; Endurance: 2000h; Leakage Current: 3uA; Operating Temperature: -55 to +105degC; Mounting Technology: SMT; ComponentLink1URL: http://www.we-online.de; ComponentLink1Description: Manufacturer; Packaging: Tape and Reel; Published Date: October 2020; ComponentLink2Description: Datasheet; ComponentLink2URL: https://www.we-online.com/catalog/datasheet/865060540001.pdf; Diameter: 4mm; Capacitance: 4.7uF; Height: 5.5mm
footprint WCAP-ASLL_D4H5.5 (Aluminium Electrolytic V-Chip SMT Capacitors, 4x5.5mm)
pins: 1 P, 2 N

## 865060542002
designator C?, comment 10uF, 35V
WCAP-ASLL Aluminum Electrolytic Capacitor, V-Chip, SMT, D5xH5.5mm, 10uF, 35V; Manufacturer Part Number: 865060542002; Manufacturer: Wurth Elektronik; Technical Reference: ASEC055100M035DVCTBB000; Ripple Current: 150mA; Capacitance Tolerance: +/-20%; Rated Voltage: 35VDC; Dissipation Factor: 14%; Endurance: 2000h; Leakage Current: 3.5uA; Operating Temperature: -55 to +105degC; Mounting Technology: SMT; ComponentLink1URL: http://www.we-online.de; ComponentLink1Description: Manufacturer; Packaging: Tape and Reel; Published Date: October 2020; ComponentLink2Description: Datasheet; ComponentLink2URL: https://www.we-online.com/catalog/datasheet/865060542002.pdf; Diameter: 5mm; Capacitance: 10uF; Height: 5.5mm
footprint WCAP-ASLL_D5H5.5 (Aluminium Electrolytic V-Chip SMT Capacitors, 5x5.5mm)
pins: 1 P, 2 N

## 865060543003
designator C?, comment 22uF, 35V
WCAP-ASLL Aluminum Electrolytic Capacitor, V-Chip, SMT, D6.3xH5.5mm, 22uF, 35V; Manufacturer Part Number: 865060543003; Manufacturer: Wurth Elektronik; Technical Reference: ASED055220M035DVCTBB000; Ripple Current: 230mA; Capacitance Tolerance: +/-20%; Rated Voltage: 35VDC; Dissipation Factor: 14%; Endurance: 2000h; Leakage Current: 7.7uA; Operating Temperature: -55 to +105degC; Mounting Technology: SMT; ComponentLink1URL: http://www.we-online.de; ComponentLink1Description: Manufacturer; Packaging: Tape and Reel; Published Date: October 2020; ComponentLink2Description: Datasheet; ComponentLink2URL: https://www.we-online.com/catalog/datasheet/865060543003.pdf; Diameter: 6.3mm; Capacitance: 22uF; Height: 5.5mm
footprint WCAP-ASLL_D6.3H5.5 (Aluminium Electrolytic V-Chip SMT Capacitors, 6.3x5.5mm)
pins: 1 P, 2 N

## 865060543004
designator C?, comment 33uF, 35V
WCAP-ASLL Aluminum Electrolytic Capacitor, V-Chip, SMT, D6.3xH5.5mm, 33uF, 35V; Manufacturer Part Number: 865060543004; Manufacturer: Wurth Elektronik; Technical Reference: ASED055330M035DVCTBB000; Ripple Current: 240mA; Capacitance Tolerance: +/-20%; Rated Voltage: 35VDC; Dissipation Factor: 14%; Endurance: 2000h; Leakage Current: 11.55uA; Operating Temperature: -55 to +105degC; Mounting Technology: SMT; ComponentLink1URL: http://www.we-online.de; ComponentLink1Description: Manufacturer; Packaging: Tape and Reel; Published Date: October 2020; ComponentLink2Description: Datasheet; ComponentLink2URL: https://www.we-online.com/catalog/datasheet/865060543004.pdf; Diameter: 6.3mm; Capacitance: 33uF; Height: 5.5mm
footprint WCAP-ASLL_D6.3H5.5 (Aluminium Electrolytic V-Chip SMT Capacitors, 6.3x5.5mm)
pins: 1 P, 2 N

## 865060543005
designator C?, comment 47uF, 35V
WCAP-ASLL Aluminum Electrolytic Capacitor, V-Chip, SMT, D6.3xH5.5mm, 47uF, 35V; Manufacturer Part Number: 865060543005; Manufacturer: Wurth Elektronik; Technical Reference: ASED055470M035DVCTBB000; Ripple Current: 240mA; Capacitance Tolerance: +/-20%; Rated Voltage: 35VDC; Dissipation Factor: 14%; Endurance: 2000h; Leakage Current: 16.45uA; Operating Temperature: -55 to +105degC; Mounting Technology: SMT; ComponentLink1URL: http://www.we-online.de; ComponentLink1Description: Manufacturer; Packaging: Tape and Reel; Published Date: October 2020; ComponentLink2Description: Datasheet; ComponentLink2URL: https://www.we-online.com/catalog/datasheet/865060543005.pdf; Diameter: 6.3mm; Capacitance: 47uF; Height: 5.5mm
footprint WCAP-ASLL_D6.3H5.5 (Aluminium Electrolytic V-Chip SMT Capacitors, 6.3x5.5mm)
pins: 1 P, 2 N

## 865060553006
designator C?, comment 100uF, 35V
WCAP-ASLL Aluminum Electrolytic Capacitor, V-Chip, SMT, D8xH10.5mm, 100uF, 35V; Manufacturer Part Number: 865060553006; Manufacturer: Wurth Elektronik; Technical Reference: ASEE105101M035DVCTEE000; Ripple Current: 450mA; Capacitance Tolerance: +/-20%; Rated Voltage: 35VDC; Dissipation Factor: 14%; Endurance: 5000h; Leakage Current: 35uA; Operating Temperature: -55 to +105degC; Mounting Technology: SMT; ComponentLink1URL: http://www.we-online.de; ComponentLink1Description: Manufacturer; Packaging: Tape and Reel; Published Date: October 2020; ComponentLink2Description: Datasheet; ComponentLink2URL: https://www.we-online.com/catalog/datasheet/865060553006.pdf; Diameter: 8mm; Capacitance: 100uF; Height: 10.5mm
footprint WCAP-ASLL_D8H10.5 (Aluminium Electrolytic V-Chip SMT Capacitors, 8x10.5mm)
pins: 1 P, 2 N

## 865060553007
designator C?, comment 150uF, 35V
WCAP-ASLL Aluminum Electrolytic Capacitor, V-Chip, SMT, D8xH10.5mm, 150uF, 35V; Manufacturer Part Number: 865060553007; Manufacturer: Wurth Elektronik; Technical Reference: ASEE105151M035DVCTEE000; Ripple Current: 550mA; Capacitance Tolerance: +/-20%; Rated Voltage: 35VDC; Dissipation Factor: 14%; Endurance: 5000h; Leakage Current: 52.5uA; Operating Temperature: -55 to +105degC; Mounting Technology: SMT; ComponentLink1URL: http://www.we-online.de; ComponentLink1Description: Manufacturer; Packaging: Tape and Reel; Published Date: October 2020; ComponentLink2Description: Datasheet; ComponentLink2URL: https://www.we-online.com/catalog/datasheet/865060553007.pdf; Diameter: 8mm; Capacitance: 150uF; Height: 10.5mm
footprint WCAP-ASLL_D8H10.5 (Aluminium Electrolytic V-Chip SMT Capacitors, 8x10.5mm)
pins: 1 P, 2 N

## 865060557008
designator C?, comment 220uF, 35V
WCAP-ASLL Aluminum Electrolytic Capacitor, V-Chip, SMT, D10xH10.5mm, 220uF, 35V; Manufacturer Part Number: 865060557008; Manufacturer: Wurth Elektronik; Technical Reference: ASEF105221M035DVCTEE000; Ripple Current: 670mA; Capacitance Tolerance: +/-20%; Rated Voltage: 35VDC; Dissipation Factor: 14%; Endurance: 5000h; Leakage Current: 77uA; Operating Temperature: -55 to +105degC; Mounting Technology: SMT; ComponentLink1URL: http://www.we-online.de; ComponentLink1Description: Manufacturer; Packaging: Tape and Reel; Published Date: October 2020; ComponentLink2Description: Datasheet; ComponentLink2URL: https://www.we-online.com/catalog/datasheet/865060557008.pdf; Diameter: 10mm; Capacitance: 220uF; Height: 10.5mm
footprint WCAP-ASLL_D10H10.5 (Aluminium Electrolytic V-Chip SMT Capacitors, 10x10.5mm)
pins: 1 P, 2 N

## 865060562009
designator C?, comment 470uF, 35V
WCAP-ASLL Aluminum Electrolytic Capacitor, V-Chip, SMT, D12.5xH14mm, 470uF, 35V; Manufacturer Part Number: 865060562009; Manufacturer: Wurth Elektronik; Technical Reference: ASEH140471M035DVCTGE000; Ripple Current: 1150mA; Capacitance Tolerance: +/-20%; Rated Voltage: 35VDC; Dissipation Factor: 14%; Endurance: 5000h; Leakage Current: 164.5uA; Operating Temperature: -55 to +105degC; Mounting Technology: SMT; ComponentLink1URL: http://www.we-online.de; ComponentLink1Description: Manufacturer; Packaging: Tape and Reel; Published Date: October 2020; ComponentLink2Description: Datasheet; ComponentLink2URL: https://www.we-online.com/catalog/datasheet/865060562009.pdf; Diameter: 12.5mm; Capacitance: 470uF; Height: 14mm
footprint WCAP-ASLL_D12.5H14 (Aluminium Electrolytic V-Chip SMT Capacitors, 12.5x14mm)
pins: 1 P, 2 N